# Altium integrated library Maxim Converter Digital to Analog.IntLib: 38 symbols
Pins are listed as number, name and electrical type; pins without a type are passive.

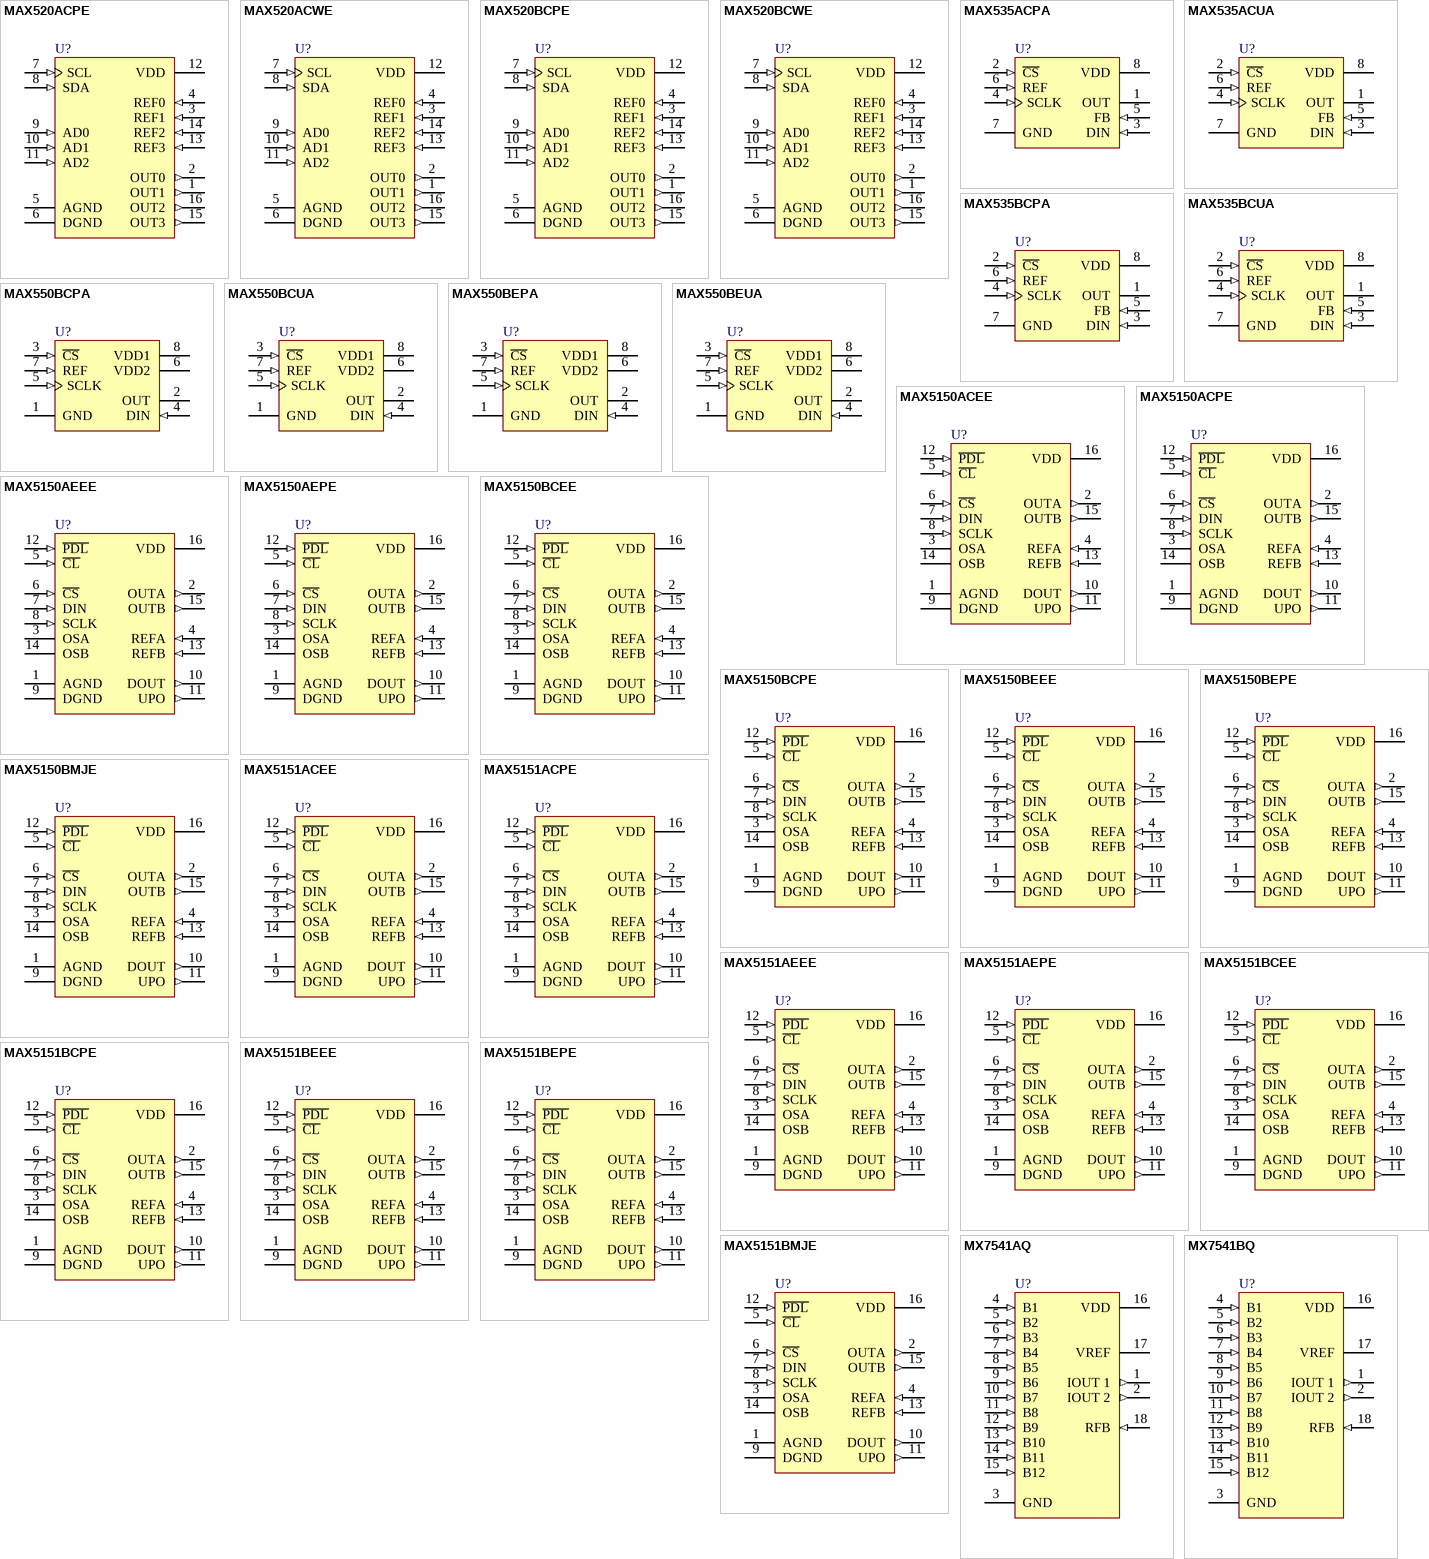
[diagram p0: symbols MAX520ACPE to MX7541BQ]

## MAX520ACPE
designator U?
Quad, 2-Wire Serial 8-Bit DACs with Rail-to-Rail Output; Published: 16-Jan-2001; LatestRevisionDate: 29-May-2009; LatestRevisionNote: Component Body Added.; DatasheetVersion: Sep-1996; PackageVersion: 1997; PackageReference: PE16A; Publisher: Altium Limited; PackageDescription: DIP, 16-Pin, Row Spacing 7.62 mm, Pitch 2.54 mm; Code_JEDEC: MS-001-BB; ComponentLink1Description: Manufacturer Link; ComponentLink1URL: http://www.maxim-ic.com/; ComponentLink2Description: Datasheet; ComponentLink2URL: http://pdfserv.maxim-ic.com/en/ds/MAX520-MAX521.pdf
footprint PE16A (DIP, 16-Leads, Row Spacing 7.62mm, Pitch 2.54mm, Body 19.18x6.99mm)
3D model PE16 (DIP, 16-Pin, Row Spacing 7.62 mm, Pitch 2.54 mm)
pins: 1 OUT1 (out), 2 OUT0 (out), 3 REF1 (in), 4 REF0 (in), 5 AGND (power), 6 DGND (power), 7 SCL (in), 8 SDA (in), 9 AD0 (in), 10 AD1 (in), 11 AD2 (in), 12 VDD (power), 13 REF3 (in), 14 REF2 (in), 15 OUT3 (out), 16 OUT2 (out)

## MAX520ACWE
designator U?
Quad, 2-Wire Serial 8-Bit DACs with Rail-to-Rail Output; Published: 16-Jan-2001; LatestRevisionDate: 13-Apr-2006; LatestRevisionNote: IPC-7351 Footprint Added.; DatasheetVersion: Sep-1996; PackageReference: WSO16; Publisher: Altium Limited; PackageDescription: 16-Pin Small Outline Integrated Circuit 1.27 mm Pitch; Code_JEDEC: MS-013-AA; Code_IPC: SOIC127P1030-16; ComponentLink1Description: Manufacturer Link; ComponentLink1URL: http://www.maxim-ic.com/; ComponentLink2Description: Datasheet; ComponentLink2URL: http://pdfserv.maxim-ic.com/en/ds/MAX520-MAX521.pdf
footprint WSO16_N (SOIC, 16-Leads, Body 10.3x7.5mm, Pitch 1.27mm, IPC Medium Density)
footprint WSO16_L (SOIC, 16-Leads, Body 10.3x7.5mm, Pitch 1.27mm, IPC High Density)
footprint WSO16_M (SOIC, 16-Leads, Body 10.3x7.5mm, Pitch 1.27mm, IPC Low Density)
3D model WSO16 (16-Pin Small Outline Integrated Circuit 1.27 mm Pitch)
pins: 1 OUT1 (out), 2 OUT0 (out), 3 REF1 (in), 4 REF0 (in), 5 AGND (power), 6 DGND (power), 7 SCL (in), 8 SDA (in), 9 AD0 (in), 10 AD1 (in), 11 AD2 (in), 12 VDD (power), 13 REF3 (in), 14 REF2 (in), 15 OUT3 (out), 16 OUT2 (out)

## MAX520BCPE
designator U?
Quad, 2-Wire Serial 8-Bit DACs with Rail-to-Rail Output; Published: 16-Jan-2001; LatestRevisionDate: 29-May-2009; LatestRevisionNote: Component Body Added.; DatasheetVersion: Sep-1996; PackageVersion: 1997; PackageReference: PE16A; Publisher: Altium Limited; PackageDescription: DIP, 16-Pin, Row Spacing 7.62 mm, Pitch 2.54 mm; Code_JEDEC: MS-001-BB; ComponentLink1Description: Manufacturer Link; ComponentLink1URL: http://www.maxim-ic.com/; ComponentLink2Description: Datasheet; ComponentLink2URL: http://pdfserv.maxim-ic.com/en/ds/MAX520-MAX521.pdf
footprint PE16A (DIP, 16-Leads, Row Spacing 7.62mm, Pitch 2.54mm, Body 19.18x6.99mm)
3D model PE16 (DIP, 16-Pin, Row Spacing 7.62 mm, Pitch 2.54 mm)
pins: 1 OUT1 (out), 2 OUT0 (out), 3 REF1 (in), 4 REF0 (in), 5 AGND (power), 6 DGND (power), 7 SCL (in), 8 SDA (in), 9 AD0 (in), 10 AD1 (in), 11 AD2 (in), 12 VDD (power), 13 REF3 (in), 14 REF2 (in), 15 OUT3 (out), 16 OUT2 (out)

## MAX520BCWE
designator U?
Quad, 2-Wire Serial 8-Bit DACs with Rail-to-Rail Output; Published: 16-Jan-2001; LatestRevisionDate: 13-Apr-2006; LatestRevisionNote: IPC-7351 Footprint Added.; DatasheetVersion: Sep-1996; PackageReference: WSO16; Publisher: Altium Limited; PackageDescription: 16-Pin Small Outline Integrated Circuit 1.27 mm Pitch; Code_JEDEC: MS-013-AA; Code_IPC: SOIC127P1030-16; ComponentLink1Description: Manufacturer Link; ComponentLink1URL: http://www.maxim-ic.com/; ComponentLink2Description: Datasheet; ComponentLink2URL: http://pdfserv.maxim-ic.com/en/ds/MAX520-MAX521.pdf
footprint WSO16_N (SOIC, 16-Leads, Body 10.3x7.5mm, Pitch 1.27mm, IPC Medium Density)
footprint WSO16_L (SOIC, 16-Leads, Body 10.3x7.5mm, Pitch 1.27mm, IPC High Density)
footprint WSO16_M (SOIC, 16-Leads, Body 10.3x7.5mm, Pitch 1.27mm, IPC Low Density)
3D model WSO16 (16-Pin Small Outline Integrated Circuit 1.27 mm Pitch)
pins: 1 OUT1 (out), 2 OUT0 (out), 3 REF1 (in), 4 REF0 (in), 5 AGND (power), 6 DGND (power), 7 SCL (in), 8 SDA (in), 9 AD0 (in), 10 AD1 (in), 11 AD2 (in), 12 VDD (power), 13 REF3 (in), 14 REF2 (in), 15 OUT3 (out), 16 OUT2 (out)

## MAX535ACPA
designator U?
Low-Power, 13-Bit Voltage-Output DACs with Serial Interface; Published: 16-Jan-2001; LatestRevisionDate: 29-May-2009; LatestRevisionNote: Component Body Added.; DatasheetVersion: Dec-1996; PackageVersion: RevB, 21-0043; PackageReference: PA8; Publisher: Altium Limited; PackageDescription: DIP, 8-Pin, Row Spacing 7.62 mm, Pitch 2.54 mm; Code_JEDEC: MS-001-AB; ComponentLink1Description: Manufacturer Link; ComponentLink1URL: http://www.maxim-ic.com/; ComponentLink2Description: Datasheet; ComponentLink2URL: http://pdfserv.maxim-ic.com/en/ds/MAX535-MAX5351.pdf
footprint PA8 (DIP, 8-Leads, Row Spacing 7.62mm, Pitch 2.54mm, Body 9.38x7.24mm)
3D model PA8 (DIP, 8-Pin, Row Spacing 7.62 mm, Pitch 2.54 mm)
pins: 1 OUT (hiz), 2 ~{CS} (in), 3 DIN (in), 4 SCLK (in), 5 FB (in), 6 REF (in), 7 GND (power), 8 VDD (power)

## MAX535ACUA
designator U?
Low-Power, 13-Bit Voltage-Output DACs with Serial Interface; Published: 16-Jan-2001; LatestRevisionDate: 29-May-2009; LatestRevisionNote: IPC-7351 Footprint Added.; DatasheetVersion: Dec-1996; PackageReference: UMAX8; Publisher: Altium Limited; PackageDescription: 8-Pin Thin Small Outline Package 0.65 mm Pitch; ComponentLink1Description: Manufacturer Link; ComponentLink1URL: http://www.maxim-ic.com/; ComponentLink2Description: Datasheet; ComponentLink2URL: http://pdfserv.maxim-ic.com/en/ds/MAX535-MAX5351.pdf
footprint UMAX8_N (TSOP, 8-Leads, Body 3x3mm, Pitch 0.65mm, IPC Medium Density)
footprint UMAX8_L (TSOP, 8-Leads, Body 3x3mm, Pitch 0.65mm, IPC High Density)
footprint UMAX8_M (TSOP, 8-Leads, Body 3x3mm, Pitch 0.65mm, IPC Low Density)
3D model UMAX8 (8-Pin Thin Small Outline Package 0.65 mm Pitch)
pins: 1 OUT (hiz), 2 ~{CS} (in), 3 DIN (in), 4 SCLK (in), 5 FB (in), 6 REF (in), 7 GND (power), 8 VDD (power)

## MAX535BCPA
designator U?
Low-Power, 13-Bit Voltage-Output DACs with Serial Interface; Published: 16-Jan-2001; LatestRevisionDate: 29-May-2009; LatestRevisionNote: Component Body Added.; DatasheetVersion: Dec-1996; PackageVersion: RevB, 21-0043; PackageReference: PA8; Publisher: Altium Limited; PackageDescription: DIP, 8-Pin, Row Spacing 7.62 mm, Pitch 2.54 mm; Code_JEDEC: MS-001-AB; ComponentLink1Description: Manufacturer Link; ComponentLink1URL: http://www.maxim-ic.com/; ComponentLink2Description: Datasheet; ComponentLink2URL: http://pdfserv.maxim-ic.com/en/ds/MAX535-MAX5351.pdf
footprint PA8 (DIP, 8-Leads, Row Spacing 7.62mm, Pitch 2.54mm, Body 9.38x7.24mm)
3D model PA8 (DIP, 8-Pin, Row Spacing 7.62 mm, Pitch 2.54 mm)
pins: 1 OUT (hiz), 2 ~{CS} (in), 3 DIN (in), 4 SCLK (in), 5 FB (in), 6 REF (in), 7 GND (power), 8 VDD (power)

## MAX535BCUA
designator U?
Low-Power, 13-Bit Voltage-Output DACs with Serial Interface; Published: 16-Jan-2001; LatestRevisionDate: 29-May-2009; LatestRevisionNote: IPC-7351 Footprint Added.; DatasheetVersion: Dec-1996; PackageReference: UMAX8; Publisher: Altium Limited; PackageDescription: 8-Pin Thin Small Outline Package 0.65 mm Pitch; ComponentLink1Description: Manufacturer Link; ComponentLink1URL: http://www.maxim-ic.com/; ComponentLink2Description: Datasheet; ComponentLink2URL: http://pdfserv.maxim-ic.com/en/ds/MAX535-MAX5351.pdf
footprint UMAX8_N (TSOP, 8-Leads, Body 3x3mm, Pitch 0.65mm, IPC Medium Density)
footprint UMAX8_L (TSOP, 8-Leads, Body 3x3mm, Pitch 0.65mm, IPC High Density)
footprint UMAX8_M (TSOP, 8-Leads, Body 3x3mm, Pitch 0.65mm, IPC Low Density)
3D model UMAX8 (8-Pin Thin Small Outline Package 0.65 mm Pitch)
pins: 1 OUT (hiz), 2 ~{CS} (in), 3 DIN (in), 4 SCLK (in), 5 FB (in), 6 REF (in), 7 GND (power), 8 VDD (power)

## MAX550BCPA
designator U?
Low Power, +2.5V to +5.5V, 8-Bit Voltage-Output DAC; Published: 16-Jan-2001; LatestRevisionDate: 29-May-2009; LatestRevisionNote: Component Body Added.; DatasheetVersion: Sep-1996; PackageVersion: RevB, 21-0043; PackageReference: PA8; Publisher: Altium Limited; PackageDescription: DIP, 8-Pin, Row Spacing 7.62 mm, Pitch 2.54 mm; Code_JEDEC: MS-001-AB; ComponentLink1Description: Manufacturer Link; ComponentLink1URL: http://www.maxim-ic.com/
footprint PA8 (DIP, 8-Leads, Row Spacing 7.62mm, Pitch 2.54mm, Body 9.38x7.24mm)
3D model PA8 (DIP, 8-Pin, Row Spacing 7.62 mm, Pitch 2.54 mm)
pins: 1 GND (power), 2 OUT (hiz), 3 ~{CS} (in), 4 DIN (in), 5 SCLK (in), 6 VDD2 (power), 7 REF (in), 8 VDD1 (power)

## MAX550BCUA
designator U?
Low Power, +2.5V to +5.5V, 8-Bit Voltage-Output DAC; Published: 16-Jan-2001; LatestRevisionDate: 29-May-2009; LatestRevisionNote: IPC-7351 Footprint Added.; DatasheetVersion: Sep-1996; PackageReference: UMAX8; Publisher: Altium Limited; PackageDescription: 8-Pin Thin Small Outline Package 0.65 mm Pitch; ComponentLink1Description: Manufacturer Link; ComponentLink1URL: http://www.maxim-ic.com/
footprint UMAX8_N (TSOP, 8-Leads, Body 3x3mm, Pitch 0.65mm, IPC Medium Density)
footprint UMAX8_L (TSOP, 8-Leads, Body 3x3mm, Pitch 0.65mm, IPC High Density)
footprint UMAX8_M (TSOP, 8-Leads, Body 3x3mm, Pitch 0.65mm, IPC Low Density)
3D model UMAX8 (8-Pin Thin Small Outline Package 0.65 mm Pitch)
pins: 1 GND (power), 2 OUT (hiz), 3 ~{CS} (in), 4 DIN (in), 5 SCLK (in), 6 VDD2 (power), 7 REF (in), 8 VDD1 (power)

## MAX550BEPA
designator U?
Low Power, +2.5V to +5.5V, 8-Bit Voltage-Output DAC; Published: 16-Jan-2001; LatestRevisionDate: 29-May-2009; LatestRevisionNote: Component Body Added.; DatasheetVersion: Sep-1996; PackageVersion: RevB, 21-0043; PackageReference: PA8; Publisher: Altium Limited; PackageDescription: DIP, 8-Pin, Row Spacing 7.62 mm, Pitch 2.54 mm; Code_JEDEC: MS-001-AB; ComponentLink1Description: Manufacturer Link; ComponentLink1URL: http://www.maxim-ic.com/
footprint PA8 (DIP, 8-Leads, Row Spacing 7.62mm, Pitch 2.54mm, Body 9.38x7.24mm)
3D model PA8 (DIP, 8-Pin, Row Spacing 7.62 mm, Pitch 2.54 mm)
pins: 1 GND (power), 2 OUT (hiz), 3 ~{CS} (in), 4 DIN (in), 5 SCLK (in), 6 VDD2 (power), 7 REF (in), 8 VDD1 (power)

## MAX550BEUA
designator U?
Low Power, +2.5V to +5.5V, 8-Bit Voltage-Output DAC; Published: 16-Jan-2001; LatestRevisionDate: 29-May-2009; LatestRevisionNote: IPC-7351 Footprint Added.; DatasheetVersion: Sep-1996; PackageReference: UMAX8; Publisher: Altium Limited; PackageDescription: 8-Pin Thin Small Outline Package 0.65 mm Pitch; ComponentLink1Description: Manufacturer Link; ComponentLink1URL: http://www.maxim-ic.com/
footprint UMAX8_N (TSOP, 8-Leads, Body 3x3mm, Pitch 0.65mm, IPC Medium Density)
footprint UMAX8_L (TSOP, 8-Leads, Body 3x3mm, Pitch 0.65mm, IPC High Density)
footprint UMAX8_M (TSOP, 8-Leads, Body 3x3mm, Pitch 0.65mm, IPC Low Density)
3D model UMAX8 (8-Pin Thin Small Outline Package 0.65 mm Pitch)
pins: 1 GND (power), 2 OUT (hiz), 3 ~{CS} (in), 4 DIN (in), 5 SCLK (in), 6 VDD2 (power), 7 REF (in), 8 VDD1 (power)

## MAX5150ACEE
designator U?
Low-Power, Dual, 13-Bit Voltage Output DAC with Serial Interface; Published: 16-Jan-2001; LatestRevisionDate: 29-May-2009; LatestRevisionNote: IPC-7351 Footprint Added.; DatasheetVersion: Aug-1997; PackageVersion: 1998; PackageReference: SOP16; Publisher: Altium Limited; PackageDescription: 16-Pin Small Outline Package 0.635 mm Pitch; Code_JEDEC: MO-137-AB; Code_IPC: SOP635P600-16; ComponentLink1Description: Manufacturer Link; ComponentLink1URL: http://www.maxim-ic.com/; ComponentLink2Description: Datasheet; ComponentLink2URL: http://pdfserv.maxim-ic.com/en/ds/MAX5150-MAX5151.pdf
footprint SOP16_N (SOP, 16-Leads, Body 4.9x3.9mm, Pitch 0.635mm, IPC Medium Density)
footprint SOP16_L (SOP, 16-Leads, Body 4.9x3.9mm, Pitch 0.635mm, IPC High Density)
footprint SOP16_M (SOP, 16-Leads, Body 4.9x3.9mm, Pitch 0.635mm, IPC Low Density)
3D model SOP16 (16-Pin Small Outline Package 0.635 mm Pitch)
pins: 1 AGND (power), 2 OUTA (out), 3 OSA (power), 4 REFA (in), 5 ~{CL} (in), 6 ~{CS} (in), 7 DIN (in), 8 SCLK (in), 9 DGND (power), 10 DOUT (out), 11 UPO (out), 12 ~{PDL} (in), 13 REFB (in), 14 OSB (power), 15 OUTB (out), 16 VDD (power)

## MAX5150ACPE
designator U?
Low-Power, Dual, 13-Bit Voltage Output DAC with Serial Interface; Published: 16-Jan-2001; LatestRevisionDate: 29-May-2009; LatestRevisionNote: Component Body Added.; DatasheetVersion: Aug-1997; PackageVersion: Aug-2000; PackageReference: PE16; Publisher: Altium Limited; PackageDescription: DIP, 16-Pin, Row Spacing 7.62 mm, Pitch 2.54 mm; Code_JEDEC: MS-001-BB; ComponentLink1Description: Manufacturer Link; ComponentLink1URL: http://www.maxim-ic.com/; ComponentLink2Description: Datasheet; ComponentLink2URL: http://pdfserv.maxim-ic.com/en/ds/MAX5150-MAX5151.pdf
footprint PE16 (DIP, 16-Leads, Row Spacing 7.62mm, Pitch 2.54mm, Body 19.18x7.24mm)
3D model PE16 (DIP, 16-Pin, Row Spacing 7.62 mm, Pitch 2.54 mm)
pins: 1 AGND (power), 2 OUTA (out), 3 OSA (power), 4 REFA (in), 5 ~{CL} (in), 6 ~{CS} (in), 7 DIN (in), 8 SCLK (in), 9 DGND (power), 10 DOUT (out), 11 UPO (out), 12 ~{PDL} (in), 13 REFB (in), 14 OSB (power), 15 OUTB (out), 16 VDD (power)

## MAX5150AEEE
designator U?
Low-Power, Dual, 13-Bit Voltage Output DAC with Serial Interface; Published: 16-Jan-2001; LatestRevisionDate: 29-May-2009; LatestRevisionNote: IPC-7351 Footprint Added.; DatasheetVersion: Aug-1997; PackageVersion: 1998; PackageReference: SOP16; Publisher: Altium Limited; PackageDescription: 16-Pin Small Outline Package 0.635 mm Pitch; Code_JEDEC: MO-137-AB; Code_IPC: SOP635P600-16; ComponentLink1Description: Manufacturer Link; ComponentLink1URL: http://www.maxim-ic.com/; ComponentLink2Description: Datasheet; ComponentLink2URL: http://pdfserv.maxim-ic.com/en/ds/MAX5150-MAX5151.pdf
footprint SOP16_N (SOP, 16-Leads, Body 4.9x3.9mm, Pitch 0.635mm, IPC Medium Density)
footprint SOP16_L (SOP, 16-Leads, Body 4.9x3.9mm, Pitch 0.635mm, IPC High Density)
footprint SOP16_M (SOP, 16-Leads, Body 4.9x3.9mm, Pitch 0.635mm, IPC Low Density)
3D model SOP16 (16-Pin Small Outline Package 0.635 mm Pitch)
pins: 1 AGND (power), 2 OUTA (out), 3 OSA (power), 4 REFA (in), 5 ~{CL} (in), 6 ~{CS} (in), 7 DIN (in), 8 SCLK (in), 9 DGND (power), 10 DOUT (out), 11 UPO (out), 12 ~{PDL} (in), 13 REFB (in), 14 OSB (power), 15 OUTB (out), 16 VDD (power)

## MAX5150AEPE
designator U?
Low-Power, Dual, 13-Bit Voltage Output DAC with Serial Interface; Published: 16-Jan-2001; LatestRevisionDate: 29-May-2009; LatestRevisionNote: Component Body Added.; DatasheetVersion: Aug-1997; PackageVersion: Aug-2000; PackageReference: PE16; Publisher: Altium Limited; PackageDescription: DIP, 16-Pin, Row Spacing 7.62 mm, Pitch 2.54 mm; Code_JEDEC: MS-001-BB; ComponentLink1Description: Manufacturer Link; ComponentLink1URL: http://www.maxim-ic.com/; ComponentLink2Description: Datasheet; ComponentLink2URL: http://pdfserv.maxim-ic.com/en/ds/MAX5150-MAX5151.pdf
footprint PE16 (DIP, 16-Leads, Row Spacing 7.62mm, Pitch 2.54mm, Body 19.18x7.24mm)
3D model PE16 (DIP, 16-Pin, Row Spacing 7.62 mm, Pitch 2.54 mm)
pins: 1 AGND (power), 2 OUTA (out), 3 OSA (power), 4 REFA (in), 5 ~{CL} (in), 6 ~{CS} (in), 7 DIN (in), 8 SCLK (in), 9 DGND (power), 10 DOUT (out), 11 UPO (out), 12 ~{PDL} (in), 13 REFB (in), 14 OSB (power), 15 OUTB (out), 16 VDD (power)

## MAX5150BCEE
designator U?
Low-Power, Dual, 13-Bit Voltage Output DAC with Serial Interface; Published: 16-Jan-2001; LatestRevisionDate: 29-May-2009; LatestRevisionNote: IPC-7351 Footprint Added.; DatasheetVersion: Aug-1997; PackageVersion: 1998; PackageReference: SOP16; Publisher: Altium Limited; PackageDescription: 16-Pin Small Outline Package 0.635 mm Pitch; Code_JEDEC: MO-137-AB; Code_IPC: SOP635P600-16; ComponentLink1Description: Manufacturer Link; ComponentLink1URL: http://www.maxim-ic.com/; ComponentLink2Description: Datasheet; ComponentLink2URL: http://pdfserv.maxim-ic.com/en/ds/MAX5150-MAX5151.pdf
footprint SOP16_N (SOP, 16-Leads, Body 4.9x3.9mm, Pitch 0.635mm, IPC Medium Density)
footprint SOP16_L (SOP, 16-Leads, Body 4.9x3.9mm, Pitch 0.635mm, IPC High Density)
footprint SOP16_M (SOP, 16-Leads, Body 4.9x3.9mm, Pitch 0.635mm, IPC Low Density)
3D model SOP16 (16-Pin Small Outline Package 0.635 mm Pitch)
pins: 1 AGND (power), 2 OUTA (out), 3 OSA (power), 4 REFA (in), 5 ~{CL} (in), 6 ~{CS} (in), 7 DIN (in), 8 SCLK (in), 9 DGND (power), 10 DOUT (out), 11 UPO (out), 12 ~{PDL} (in), 13 REFB (in), 14 OSB (power), 15 OUTB (out), 16 VDD (power)

## MAX5150BCPE
designator U?
Low-Power, Dual, 13-Bit Voltage Output DAC with Serial Interface; Published: 16-Jan-2001; LatestRevisionDate: 29-May-2009; LatestRevisionNote: Component Body Added.; DatasheetVersion: Aug-1997; PackageVersion: Aug-2000; PackageReference: PE16; Publisher: Altium Limited; PackageDescription: DIP, 16-Pin, Row Spacing 7.62 mm, Pitch 2.54 mm; Code_JEDEC: MS-001-BB; ComponentLink1Description: Manufacturer Link; ComponentLink1URL: http://www.maxim-ic.com/; ComponentLink2Description: Datasheet; ComponentLink2URL: http://pdfserv.maxim-ic.com/en/ds/MAX5150-MAX5151.pdf
footprint PE16 (DIP, 16-Leads, Row Spacing 7.62mm, Pitch 2.54mm, Body 19.18x7.24mm)
3D model PE16 (DIP, 16-Pin, Row Spacing 7.62 mm, Pitch 2.54 mm)
pins: 1 AGND (power), 2 OUTA (out), 3 OSA (power), 4 REFA (in), 5 ~{CL} (in), 6 ~{CS} (in), 7 DIN (in), 8 SCLK (in), 9 DGND (power), 10 DOUT (out), 11 UPO (out), 12 ~{PDL} (in), 13 REFB (in), 14 OSB (power), 15 OUTB (out), 16 VDD (power)

## MAX5150BEEE
designator U?
Low-Power, Dual, 13-Bit Voltage Output DAC with Serial Interface; Published: 16-Jan-2001; LatestRevisionDate: 29-May-2009; LatestRevisionNote: IPC-7351 Footprint Added.; DatasheetVersion: Aug-1997; PackageVersion: 1998; PackageReference: SOP16; Publisher: Altium Limited; PackageDescription: 16-Pin Small Outline Package 0.635 mm Pitch; Code_JEDEC: MO-137-AB; Code_IPC: SOP635P600-16; ComponentLink1Description: Manufacturer Link; ComponentLink1URL: http://www.maxim-ic.com/; ComponentLink2Description: Datasheet; ComponentLink2URL: http://pdfserv.maxim-ic.com/en/ds/MAX5150-MAX5151.pdf
footprint SOP16_N (SOP, 16-Leads, Body 4.9x3.9mm, Pitch 0.635mm, IPC Medium Density)
footprint SOP16_L (SOP, 16-Leads, Body 4.9x3.9mm, Pitch 0.635mm, IPC High Density)
footprint SOP16_M (SOP, 16-Leads, Body 4.9x3.9mm, Pitch 0.635mm, IPC Low Density)
3D model SOP16 (16-Pin Small Outline Package 0.635 mm Pitch)
pins: 1 AGND (power), 2 OUTA (out), 3 OSA (power), 4 REFA (in), 5 ~{CL} (in), 6 ~{CS} (in), 7 DIN (in), 8 SCLK (in), 9 DGND (power), 10 DOUT (out), 11 UPO (out), 12 ~{PDL} (in), 13 REFB (in), 14 OSB (power), 15 OUTB (out), 16 VDD (power)

## MAX5150BEPE
designator U?
Low-Power, Dual, 13-Bit Voltage Output DAC with Serial Interface; Published: 16-Jan-2001; LatestRevisionDate: 29-May-2009; LatestRevisionNote: Component Body Added.; DatasheetVersion: Aug-1997; PackageVersion: Aug-2000; PackageReference: PE16; Publisher: Altium Limited; PackageDescription: DIP, 16-Pin, Row Spacing 7.62 mm, Pitch 2.54 mm; Code_JEDEC: MS-001-BB; ComponentLink1Description: Manufacturer Link; ComponentLink1URL: http://www.maxim-ic.com/; ComponentLink2Description: Datasheet; ComponentLink2URL: http://pdfserv.maxim-ic.com/en/ds/MAX5150-MAX5151.pdf
footprint PE16 (DIP, 16-Leads, Row Spacing 7.62mm, Pitch 2.54mm, Body 19.18x7.24mm)
3D model PE16 (DIP, 16-Pin, Row Spacing 7.62 mm, Pitch 2.54 mm)
pins: 1 AGND (power), 2 OUTA (out), 3 OSA (power), 4 REFA (in), 5 ~{CL} (in), 6 ~{CS} (in), 7 DIN (in), 8 SCLK (in), 9 DGND (power), 10 DOUT (out), 11 UPO (out), 12 ~{PDL} (in), 13 REFB (in), 14 OSB (power), 15 OUTB (out), 16 VDD (power)

## MAX5150BMJE
designator U?
Low-Power, Dual, 13-Bit Voltage Output DAC with Serial Interface; Published: 16-Jan-2001; LatestRevisionDate: 29-May-2009; LatestRevisionNote: Component Body Added.; DatasheetVersion: Aug-1997; PackageVersion: 1996; PackageReference: JE16; Publisher: Altium Limited; PackageDescription: DIP, 16-Pin, Row Spacing 7.62 mm, Pitch 2.54 mm; ComponentLink1Description: Manufacturer Link; ComponentLink1URL: http://www.maxim-ic.com/; ComponentLink2Description: Datasheet; ComponentLink2URL: http://pdfserv.maxim-ic.com/en/ds/MAX5150-MAX5151.pdf
footprint JE16 (DIP, 16-Leads, Row Spacing 7.62mm, Pitch 2.54mm, Body 20.37x6.73mm)
3D model JE16 (DIP, 16-Pin, Row Spacing 7.62 mm, Pitch 2.54 mm)
pins: 1 AGND (power), 2 OUTA (out), 3 OSA (power), 4 REFA (in), 5 ~{CL} (in), 6 ~{CS} (in), 7 DIN (in), 8 SCLK (in), 9 DGND (power), 10 DOUT (out), 11 UPO (out), 12 ~{PDL} (in), 13 REFB (in), 14 OSB (power), 15 OUTB (out), 16 VDD (power)

## MAX5151ACEE
designator U?
Low-Power, Dual, 13-Bit Voltage Output DAC with Serial Interface; Published: 16-Jan-2001; LatestRevisionDate: 29-May-2009; LatestRevisionNote: IPC-7351 Footprint Added.; DatasheetVersion: Aug-1997; PackageVersion: 1998; PackageReference: SOP16; Publisher: Altium Limited; PackageDescription: 16-Pin Small Outline Package 0.635 mm Pitch; Code_JEDEC: MO-137-AB; Code_IPC: SOP635P600-16; ComponentLink1Description: Manufacturer Link; ComponentLink1URL: http://www.maxim-ic.com/; ComponentLink2Description: Datasheet; ComponentLink2URL: http://pdfserv.maxim-ic.com/en/ds/MAX5150-MAX5151.pdf
footprint SOP16_N (SOP, 16-Leads, Body 4.9x3.9mm, Pitch 0.635mm, IPC Medium Density)
footprint SOP16_L (SOP, 16-Leads, Body 4.9x3.9mm, Pitch 0.635mm, IPC High Density)
footprint SOP16_M (SOP, 16-Leads, Body 4.9x3.9mm, Pitch 0.635mm, IPC Low Density)
3D model SOP16 (16-Pin Small Outline Package 0.635 mm Pitch)
pins: 1 AGND (power), 2 OUTA (out), 3 OSA (power), 4 REFA (in), 5 ~{CL} (in), 6 ~{CS} (in), 7 DIN (in), 8 SCLK (in), 9 DGND (power), 10 DOUT (out), 11 UPO (out), 12 ~{PDL} (in), 13 REFB (in), 14 OSB (power), 15 OUTB (out), 16 VDD (power)

## MAX5151ACPE
designator U?
Low-Power, Dual, 13-Bit Voltage Output DAC with Serial Interface; Published: 16-Jan-2001; LatestRevisionDate: 29-May-2009; LatestRevisionNote: Component Body Added.; DatasheetVersion: Aug-1997; PackageVersion: Aug-2000; PackageReference: PE16; Publisher: Altium Limited; PackageDescription: DIP, 16-Pin, Row Spacing 7.62 mm, Pitch 2.54 mm; Code_JEDEC: MS-001-BB; ComponentLink1Description: Manufacturer Link; ComponentLink1URL: http://www.maxim-ic.com/; ComponentLink2Description: Datasheet; ComponentLink2URL: http://pdfserv.maxim-ic.com/en/ds/MAX5150-MAX5151.pdf
footprint PE16 (DIP, 16-Leads, Row Spacing 7.62mm, Pitch 2.54mm, Body 19.18x7.24mm)
3D model PE16 (DIP, 16-Pin, Row Spacing 7.62 mm, Pitch 2.54 mm)
pins: 1 AGND (power), 2 OUTA (out), 3 OSA (power), 4 REFA (in), 5 ~{CL} (in), 6 ~{CS} (in), 7 DIN (in), 8 SCLK (in), 9 DGND (power), 10 DOUT (out), 11 UPO (out), 12 ~{PDL} (in), 13 REFB (in), 14 OSB (power), 15 OUTB (out), 16 VDD (power)

## MAX5151AEEE
designator U?
Low-Power, Dual, 13-Bit Voltage Output DAC with Serial Interface; Published: 16-Jan-2001; LatestRevisionDate: 29-May-2009; LatestRevisionNote: IPC-7351 Footprint Added.; DatasheetVersion: Aug-1997; PackageVersion: 1998; PackageReference: SOP16; Publisher: Altium Limited; PackageDescription: 16-Pin Small Outline Package 0.635 mm Pitch; Code_JEDEC: MO-137-AB; Code_IPC: SOP635P600-16; ComponentLink1Description: Manufacturer Link; ComponentLink1URL: http://www.maxim-ic.com/; ComponentLink2Description: Datasheet; ComponentLink2URL: http://pdfserv.maxim-ic.com/en/ds/MAX5150-MAX5151.pdf
footprint SOP16_N (SOP, 16-Leads, Body 4.9x3.9mm, Pitch 0.635mm, IPC Medium Density)
footprint SOP16_L (SOP, 16-Leads, Body 4.9x3.9mm, Pitch 0.635mm, IPC High Density)
footprint SOP16_M (SOP, 16-Leads, Body 4.9x3.9mm, Pitch 0.635mm, IPC Low Density)
3D model SOP16 (16-Pin Small Outline Package 0.635 mm Pitch)
pins: 1 AGND (power), 2 OUTA (out), 3 OSA (power), 4 REFA (in), 5 ~{CL} (in), 6 ~{CS} (in), 7 DIN (in), 8 SCLK (in), 9 DGND (power), 10 DOUT (out), 11 UPO (out), 12 ~{PDL} (in), 13 REFB (in), 14 OSB (power), 15 OUTB (out), 16 VDD (power)

## MAX5151AEPE
designator U?
Low-Power, Dual, 13-Bit Voltage Output DAC with Serial Interface; Published: 16-Jan-2001; LatestRevisionDate: 29-May-2009; LatestRevisionNote: Component Body Added.; DatasheetVersion: Aug-1997; PackageVersion: Aug-2000; PackageReference: PE16; Publisher: Altium Limited; PackageDescription: DIP, 16-Pin, Row Spacing 7.62 mm, Pitch 2.54 mm; Code_JEDEC: MS-001-BB; ComponentLink1Description: Manufacturer Link; ComponentLink1URL: http://www.maxim-ic.com/; ComponentLink2Description: Datasheet; ComponentLink2URL: http://pdfserv.maxim-ic.com/en/ds/MAX5150-MAX5151.pdf
footprint PE16 (DIP, 16-Leads, Row Spacing 7.62mm, Pitch 2.54mm, Body 19.18x7.24mm)
3D model PE16 (DIP, 16-Pin, Row Spacing 7.62 mm, Pitch 2.54 mm)
pins: 1 AGND (power), 2 OUTA (out), 3 OSA (power), 4 REFA (in), 5 ~{CL} (in), 6 ~{CS} (in), 7 DIN (in), 8 SCLK (in), 9 DGND (power), 10 DOUT (out), 11 UPO (out), 12 ~{PDL} (in), 13 REFB (in), 14 OSB (power), 15 OUTB (out), 16 VDD (power)

## MAX5151BCEE
designator U?
Low-Power, Dual, 13-Bit Voltage Output DAC with Serial Interface; Published: 16-Jan-2001; LatestRevisionDate: 29-May-2009; LatestRevisionNote: IPC-7351 Footprint Added.; DatasheetVersion: Aug-1997; PackageVersion: 1998; PackageReference: SOP16; Publisher: Altium Limited; PackageDescription: 16-Pin Small Outline Package 0.635 mm Pitch; Code_JEDEC: MO-137-AB; Code_IPC: SOP635P600-16; ComponentLink1Description: Manufacturer Link; ComponentLink1URL: http://www.maxim-ic.com/; ComponentLink2Description: Datasheet; ComponentLink2URL: http://pdfserv.maxim-ic.com/en/ds/MAX5150-MAX5151.pdf
footprint SOP16_N (SOP, 16-Leads, Body 4.9x3.9mm, Pitch 0.635mm, IPC Medium Density)
footprint SOP16_L (SOP, 16-Leads, Body 4.9x3.9mm, Pitch 0.635mm, IPC High Density)
footprint SOP16_M (SOP, 16-Leads, Body 4.9x3.9mm, Pitch 0.635mm, IPC Low Density)
3D model SOP16 (16-Pin Small Outline Package 0.635 mm Pitch)
pins: 1 AGND (power), 2 OUTA (out), 3 OSA (power), 4 REFA (in), 5 ~{CL} (in), 6 ~{CS} (in), 7 DIN (in), 8 SCLK (in), 9 DGND (power), 10 DOUT (out), 11 UPO (out), 12 ~{PDL} (in), 13 REFB (in), 14 OSB (power), 15 OUTB (out), 16 VDD (power)

## MAX5151BCPE
designator U?
Low-Power, Dual, 13-Bit Voltage Output DAC with Serial Interface; Published: 16-Jan-2001; LatestRevisionDate: 29-May-2009; LatestRevisionNote: Component Body Added.; DatasheetVersion: Aug-1997; PackageVersion: Aug-2000; PackageReference: PE16; Publisher: Altium Limited; PackageDescription: DIP, 16-Pin, Row Spacing 7.62 mm, Pitch 2.54 mm; Code_JEDEC: MS-001-BB; ComponentLink1Description: Manufacturer Link; ComponentLink1URL: http://www.maxim-ic.com/; ComponentLink2Description: Datasheet; ComponentLink2URL: http://pdfserv.maxim-ic.com/en/ds/MAX5150-MAX5151.pdf
footprint PE16 (DIP, 16-Leads, Row Spacing 7.62mm, Pitch 2.54mm, Body 19.18x7.24mm)
3D model PE16 (DIP, 16-Pin, Row Spacing 7.62 mm, Pitch 2.54 mm)
pins: 1 AGND (power), 2 OUTA (out), 3 OSA (power), 4 REFA (in), 5 ~{CL} (in), 6 ~{CS} (in), 7 DIN (in), 8 SCLK (in), 9 DGND (power), 10 DOUT (out), 11 UPO (out), 12 ~{PDL} (in), 13 REFB (in), 14 OSB (power), 15 OUTB (out), 16 VDD (power)

## MAX5151BEEE
designator U?
Low-Power, Dual, 13-Bit Voltage Output DAC with Serial Interface; Published: 16-Jan-2001; LatestRevisionDate: 29-May-2009; LatestRevisionNote: IPC-7351 Footprint Added.; DatasheetVersion: Aug-1997; PackageVersion: 1998; PackageReference: SOP16; Publisher: Altium Limited; PackageDescription: 16-Pin Small Outline Package 0.635 mm Pitch; Code_JEDEC: MO-137-AB; Code_IPC: SOP635P600-16; ComponentLink1Description: Manufacturer Link; ComponentLink1URL: http://www.maxim-ic.com/; ComponentLink2Description: Datasheet; ComponentLink2URL: http://pdfserv.maxim-ic.com/en/ds/MAX5150-MAX5151.pdf
footprint SOP16_N (SOP, 16-Leads, Body 4.9x3.9mm, Pitch 0.635mm, IPC Medium Density)
footprint SOP16_L (SOP, 16-Leads, Body 4.9x3.9mm, Pitch 0.635mm, IPC High Density)
footprint SOP16_M (SOP, 16-Leads, Body 4.9x3.9mm, Pitch 0.635mm, IPC Low Density)
3D model SOP16 (16-Pin Small Outline Package 0.635 mm Pitch)
pins: 1 AGND (power), 2 OUTA (out), 3 OSA (power), 4 REFA (in), 5 ~{CL} (in), 6 ~{CS} (in), 7 DIN (in), 8 SCLK (in), 9 DGND (power), 10 DOUT (out), 11 UPO (out), 12 ~{PDL} (in), 13 REFB (in), 14 OSB (power), 15 OUTB (out), 16 VDD (power)

## MAX5151BEPE
designator U?
Low-Power, Dual, 13-Bit Voltage Output DAC with Serial Interface; Published: 16-Jan-2001; LatestRevisionDate: 29-May-2009; LatestRevisionNote: Component Body Added.; DatasheetVersion: Aug-1997; PackageVersion: Aug-2000; PackageReference: PE16; Publisher: Altium Limited; PackageDescription: DIP, 16-Pin, Row Spacing 7.62 mm, Pitch 2.54 mm; Code_JEDEC: MS-001-BB; ComponentLink1Description: Manufacturer Link; ComponentLink1URL: http://www.maxim-ic.com/; ComponentLink2Description: Datasheet; ComponentLink2URL: http://pdfserv.maxim-ic.com/en/ds/MAX5150-MAX5151.pdf
footprint PE16 (DIP, 16-Leads, Row Spacing 7.62mm, Pitch 2.54mm, Body 19.18x7.24mm)
3D model PE16 (DIP, 16-Pin, Row Spacing 7.62 mm, Pitch 2.54 mm)
pins: 1 AGND (power), 2 OUTA (out), 3 OSA (power), 4 REFA (in), 5 ~{CL} (in), 6 ~{CS} (in), 7 DIN (in), 8 SCLK (in), 9 DGND (power), 10 DOUT (out), 11 UPO (out), 12 ~{PDL} (in), 13 REFB (in), 14 OSB (power), 15 OUTB (out), 16 VDD (power)

## MAX5151BMJE
designator U?
Low-Power, Dual, 13-Bit Voltage Output DAC with Serial Interface; Published: 16-Jan-2001; LatestRevisionDate: 29-May-2009; LatestRevisionNote: Component Body Added.; DatasheetVersion: Aug-1997; PackageVersion: 1996; PackageReference: JE16; Publisher: Altium Limited; PackageDescription: DIP, 16-Pin, Row Spacing 7.62 mm, Pitch 2.54 mm; ComponentLink1Description: Manufacturer Link; ComponentLink1URL: http://www.maxim-ic.com/; ComponentLink2Description: Datasheet; ComponentLink2URL: http://pdfserv.maxim-ic.com/en/ds/MAX5150-MAX5151.pdf
footprint JE16 (DIP, 16-Leads, Row Spacing 7.62mm, Pitch 2.54mm, Body 20.37x6.73mm)
3D model JE16 (DIP, 16-Pin, Row Spacing 7.62 mm, Pitch 2.54 mm)
pins: 1 AGND (power), 2 OUTA (out), 3 OSA (power), 4 REFA (in), 5 ~{CL} (in), 6 ~{CS} (in), 7 DIN (in), 8 SCLK (in), 9 DGND (power), 10 DOUT (out), 11 UPO (out), 12 ~{PDL} (in), 13 REFB (in), 14 OSB (power), 15 OUTB (out), 16 VDD (power)

## MX7541AQ
designator U?
CMOS 12-Bit Multiplying D/A Converter; Published: 16-Jan-2001; LatestRevisionDate: 29-May-2009; LatestRevisionNote: Component Body Added.; DatasheetVersion: Nov-1995; PackageVersion: 1996; PackageReference: JN18; Publisher: Altium Limited; PackageDescription: DIP, 18-Pin, Row Spacing 7.62 mm, Pitch 2.54 mm; ComponentLink1Description: Manufacturer Link; ComponentLink1URL: http://www.maxim-ic.com/; ComponentLink2Description: Datasheet; ComponentLink2URL: http://pdfserv.maxim-ic.com/en/ds/MX7541.pdf
footprint JN18 (DIP, 18-Leads, Row Spacing 7.62mm, Pitch 2.54mm, Body 24.13x6.73mm)
3D model JN18 (DIP, 18-Pin, Row Spacing 7.62 mm, Pitch 2.54 mm)
pins: 1 IOUT 1 (out), 2 IOUT 2 (out), 3 GND (power), 4 B1 (in), 5 B2 (in), 6 B3 (in), 7 B4 (in), 8 B5 (in), 9 B6 (in), 10 B7 (in), 11 B8 (in), 12 B9 (in), 13 B10 (in), 14 B11 (in), 15 B12 (in), 16 VDD (power), 17 VREF, 18 RFB (in)

## MX7541BQ
designator U?
CMOS 12-Bit Multiplying D/A Converter; Published: 16-Jan-2001; LatestRevisionDate: 29-May-2009; LatestRevisionNote: Component Body Added.; DatasheetVersion: Nov-1995; PackageVersion: 1996; PackageReference: JN18; Publisher: Altium Limited; PackageDescription: DIP, 18-Pin, Row Spacing 7.62 mm, Pitch 2.54 mm; ComponentLink1Description: Manufacturer Link; ComponentLink1URL: http://www.maxim-ic.com/; ComponentLink2Description: Datasheet; ComponentLink2URL: http://pdfserv.maxim-ic.com/en/ds/MX7541.pdf
footprint JN18 (DIP, 18-Leads, Row Spacing 7.62mm, Pitch 2.54mm, Body 24.13x6.73mm)
3D model JN18 (DIP, 18-Pin, Row Spacing 7.62 mm, Pitch 2.54 mm)
pins: 1 IOUT 1 (out), 2 IOUT 2 (out), 3 GND (power), 4 B1 (in), 5 B2 (in), 6 B3 (in), 7 B4 (in), 8 B5 (in), 9 B6 (in), 10 B7 (in), 11 B8 (in), 12 B9 (in), 13 B10 (in), 14 B11 (in), 15 B12 (in), 16 VDD (power), 17 VREF, 18 RFB (in)

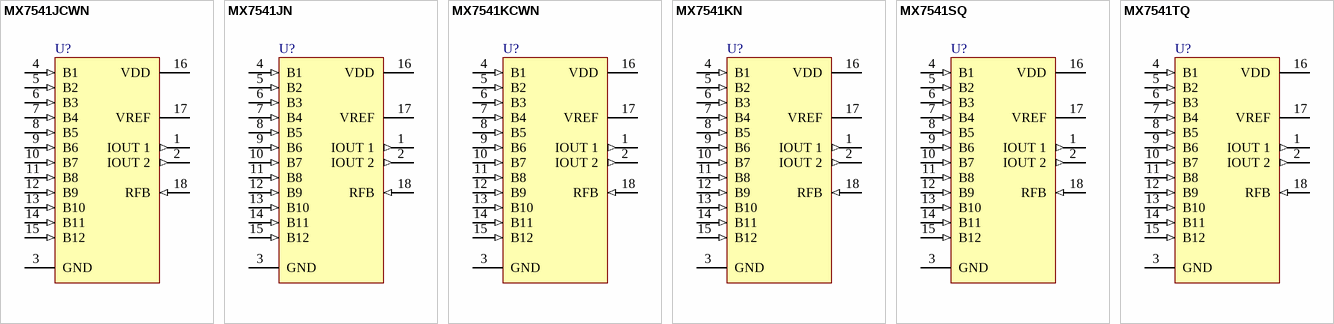
[diagram p1: symbols MX7541JCWN to MX7541TQ]

## MX7541JCWN
designator U?
CMOS 12-Bit Multiplying D/A Converter; Published: 16-Jan-2001; LatestRevisionDate: 13-Apr-2006; LatestRevisionNote: IPC-7351 Footprint Added.; DatasheetVersion: Nov-1995; PackageReference: WSO18; Publisher: Altium Limited; PackageDescription: 18-Pin Small Outline Integrated Circuit 1.27 mm Pitch; Code_JEDEC: MS-013-AB; ComponentLink1Description: Manufacturer Link; ComponentLink1URL: http://www.maxim-ic.com/; ComponentLink2Description: Datasheet; ComponentLink2URL: http://pdfserv.maxim-ic.com/en/ds/MX7541.pdf
footprint WSO18_N (SOIC, 18-Leads, Body 11.6x7.5mm, Pitch 1.27mm, IPC Medium Density)
footprint WSO18_L (SOIC, 18-Leads, Body 11.6x7.5mm, Pitch 1.27mm, IPC High Density)
footprint WSO18_M (SOIC, 18-Leads, Body 11.6x7.5mm, Pitch 1.27mm, IPC Low Density)
3D model WSO18 (18-Pin Small Outline Integrated Circuit 1.27 mm Pitch)
pins: 1 IOUT 1 (out), 2 IOUT 2 (out), 3 GND (power), 4 B1 (in), 5 B2 (in), 6 B3 (in), 7 B4 (in), 8 B5 (in), 9 B6 (in), 10 B7 (in), 11 B8 (in), 12 B9 (in), 13 B10 (in), 14 B11 (in), 15 B12 (in), 16 VDD (power), 17 VREF, 18 RFB (in)

## MX7541JN
designator U?
CMOS 12-Bit Multiplying D/A Converter; Published: 16-Jan-2001; LatestRevisionDate: 29-May-2009; LatestRevisionNote: Component Body Added.; DatasheetVersion: Nov-1995; PackageVersion: Aug-2000; PackageReference: PN18; Publisher: Altium Limited; PackageDescription: DIP, 18-Pin, Row Spacing 7.62 mm, Pitch 2.54 mm; ComponentLink1Description: Manufacturer Link; ComponentLink1URL: http://www.maxim-ic.com/; ComponentLink2Description: Datasheet; ComponentLink2URL: http://pdfserv.maxim-ic.com/en/ds/MX7541.pdf
footprint PN18 (DIP, 18-Leads, Row Spacing 7.62mm, Pitch 2.54mm, Body 22.86x7.24mm)
3D model PN18 (DIP, 18-Pin, Row Spacing 7.62 mm, Pitch 2.54 mm)
pins: 1 IOUT 1 (out), 2 IOUT 2 (out), 3 GND (power), 4 B1 (in), 5 B2 (in), 6 B3 (in), 7 B4 (in), 8 B5 (in), 9 B6 (in), 10 B7 (in), 11 B8 (in), 12 B9 (in), 13 B10 (in), 14 B11 (in), 15 B12 (in), 16 VDD (power), 17 VREF, 18 RFB (in)

## MX7541KCWN
designator U?
CMOS 12-Bit Multiplying D/A Converter; Published: 16-Jan-2001; LatestRevisionDate: 13-Apr-2006; LatestRevisionNote: IPC-7351 Footprint Added.; DatasheetVersion: Nov-1995; PackageReference: WSO18; Publisher: Altium Limited; PackageDescription: 18-Pin Small Outline Integrated Circuit 1.27 mm Pitch; Code_JEDEC: MS-013-AB; ComponentLink1Description: Manufacturer Link; ComponentLink1URL: http://www.maxim-ic.com/; ComponentLink2Description: Datasheet; ComponentLink2URL: http://pdfserv.maxim-ic.com/en/ds/MX7541.pdf
footprint WSO18_N (SOIC, 18-Leads, Body 11.6x7.5mm, Pitch 1.27mm, IPC Medium Density)
footprint WSO18_L (SOIC, 18-Leads, Body 11.6x7.5mm, Pitch 1.27mm, IPC High Density)
footprint WSO18_M (SOIC, 18-Leads, Body 11.6x7.5mm, Pitch 1.27mm, IPC Low Density)
3D model WSO18 (18-Pin Small Outline Integrated Circuit 1.27 mm Pitch)
pins: 1 IOUT 1 (out), 2 IOUT 2 (out), 3 GND (power), 4 B1 (in), 5 B2 (in), 6 B3 (in), 7 B4 (in), 8 B5 (in), 9 B6 (in), 10 B7 (in), 11 B8 (in), 12 B9 (in), 13 B10 (in), 14 B11 (in), 15 B12 (in), 16 VDD (power), 17 VREF, 18 RFB (in)

## MX7541KN
designator U?
CMOS 12-Bit Multiplying D/A Converter; Published: 16-Jan-2001; LatestRevisionDate: 29-May-2009; LatestRevisionNote: Component Body Added.; DatasheetVersion: Nov-1995; PackageVersion: Aug-2000; PackageReference: PN18; Publisher: Altium Limited; PackageDescription: DIP, 18-Pin, Row Spacing 7.62 mm, Pitch 2.54 mm; ComponentLink1Description: Manufacturer Link; ComponentLink1URL: http://www.maxim-ic.com/; ComponentLink2Description: Datasheet; ComponentLink2URL: http://pdfserv.maxim-ic.com/en/ds/MX7541.pdf
footprint PN18 (DIP, 18-Leads, Row Spacing 7.62mm, Pitch 2.54mm, Body 22.86x7.24mm)
3D model PN18 (DIP, 18-Pin, Row Spacing 7.62 mm, Pitch 2.54 mm)
pins: 1 IOUT 1 (out), 2 IOUT 2 (out), 3 GND (power), 4 B1 (in), 5 B2 (in), 6 B3 (in), 7 B4 (in), 8 B5 (in), 9 B6 (in), 10 B7 (in), 11 B8 (in), 12 B9 (in), 13 B10 (in), 14 B11 (in), 15 B12 (in), 16 VDD (power), 17 VREF, 18 RFB (in)

## MX7541SQ
designator U?
CMOS 12-Bit Multiplying D/A Converter; Published: 16-Jan-2001; LatestRevisionDate: 29-May-2009; LatestRevisionNote: Component Body Added.; DatasheetVersion: Nov-1995; PackageVersion: 1996; PackageReference: JN18; Publisher: Altium Limited; PackageDescription: DIP, 18-Pin, Row Spacing 7.62 mm, Pitch 2.54 mm; ComponentLink1Description: Manufacturer Link; ComponentLink1URL: http://www.maxim-ic.com/; ComponentLink2Description: Datasheet; ComponentLink2URL: http://pdfserv.maxim-ic.com/en/ds/MX7541.pdf
footprint JN18 (DIP, 18-Leads, Row Spacing 7.62mm, Pitch 2.54mm, Body 24.13x6.73mm)
3D model JN18 (DIP, 18-Pin, Row Spacing 7.62 mm, Pitch 2.54 mm)
pins: 1 IOUT 1 (out), 2 IOUT 2 (out), 3 GND (power), 4 B1 (in), 5 B2 (in), 6 B3 (in), 7 B4 (in), 8 B5 (in), 9 B6 (in), 10 B7 (in), 11 B8 (in), 12 B9 (in), 13 B10 (in), 14 B11 (in), 15 B12 (in), 16 VDD (power), 17 VREF, 18 RFB (in)

## MX7541TQ
designator U?
CMOS 12-Bit Multiplying D/A Converter; Published: 16-Jan-2001; LatestRevisionDate: 29-May-2009; LatestRevisionNote: Component Body Added.; DatasheetVersion: Nov-1995; PackageVersion: 1996; PackageReference: JN18; Publisher: Altium Limited; PackageDescription: DIP, 18-Pin, Row Spacing 7.62 mm, Pitch 2.54 mm; ComponentLink1Description: Manufacturer Link; ComponentLink1URL: http://www.maxim-ic.com/; ComponentLink2Description: Datasheet; ComponentLink2URL: http://pdfserv.maxim-ic.com/en/ds/MX7541.pdf
footprint JN18 (DIP, 18-Leads, Row Spacing 7.62mm, Pitch 2.54mm, Body 24.13x6.73mm)
3D model JN18 (DIP, 18-Pin, Row Spacing 7.62 mm, Pitch 2.54 mm)
pins: 1 IOUT 1 (out), 2 IOUT 2 (out), 3 GND (power), 4 B1 (in), 5 B2 (in), 6 B3 (in), 7 B4 (in), 8 B5 (in), 9 B6 (in), 10 B7 (in), 11 B8 (in), 12 B9 (in), 13 B10 (in), 14 B11 (in), 15 B12 (in), 16 VDD (power), 17 VREF, 18 RFB (in)